# Altium footprint library 6N137.PcbLib: 1 footprints
Each footprint in its own frame and in the unit in brackets; x right, y up, seen from the top. Pads: shape width x height; smd on the part's side, far side on the other; paste and mask are expansions set on the pad; w line width, h text height; cw(c..) or ccw(c..) is an arc to the next point about the centre after c.
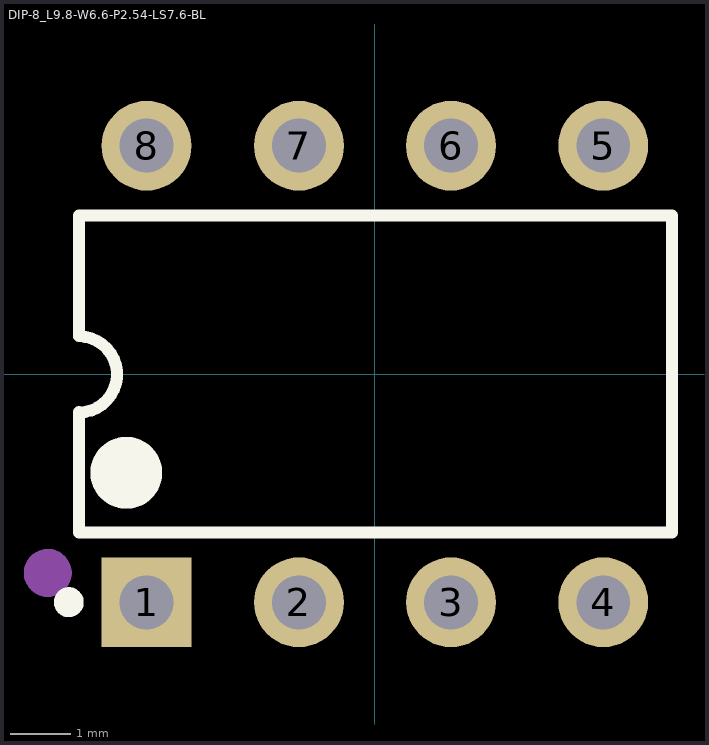
[diagram p0: the footprint, top view; thin cyan lines are the x and y axes]

## DIP-8_L9.8-W6.6-P2.54-LS7.6-BL [mm]
pads (8):
  rect 1.5x1.5 hole 0.9 paste-2539.97 mask+0.051: 1(-3.81,-3.81)
  round 1.5 hole 0.9 paste-2539.97 mask+0.051: 2(-1.27,-3.81) 3(1.27,-3.81) 4(3.81,-3.81) 5(3.81,3.81) 6(1.27,3.81) 7(-1.27,3.81) 8(-3.81,3.81)
Top Overlay:
  lines w0.2: -4.94,0.63 cw(c-4.94,-0.005) -4.94,-0.64 -4.94,-0.635 -4.94,-2.649 4.961,-2.649 4.961,2.649 -4.94,2.649 -4.94,0.635 -4.94,0.64
  lines w0.25: -5.235,-3.81 ccw(c-5.11,-3.809) -5.235,-3.807
  lines w0.6: -4.45,-1.651 ccw(c-4.15,-1.648) -4.45,-1.646
Mechanical 15:
  circle w0.4: c-5.46,-3.32 r0.2
3D body "6N137.STEP": height 4.96, standoff -2.95, extent -4.885,-3.81 4.885,3.81